# Altium schematic symbol library STM32F732RE.SCHLIB: 1 symbol
Pins are listed as number, name and electrical type; pins without a type are passive.

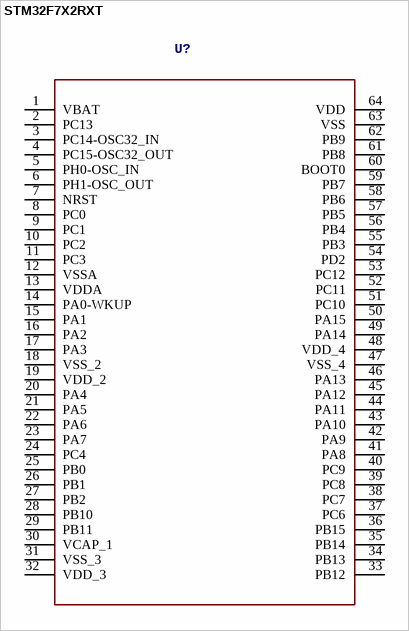
[diagram p0: symbol STM32F7X2RXT]

## STM32F7X2RXT
designator U?
MANUFACTURER_PART_NUMBER: stm32f7x2rxt; VENDOR: STMicroelectronics
footprint LQFP64-10X10MM
pins: 1 VBAT (power), 2 PC13, 3 PC14-OSC32_IN, 4 PC15-OSC32_OUT, 5 PH0-OSC_IN, 6 PH1-OSC_OUT, 7 NRST, 8 PC0, 9 PC1, 10 PC2, 11 PC3, 12 VSSA (power), 13 VDDA (power), 14 PA0-WKUP, 15 PA1, 16 PA2, 17 PA3, 18 VSS_2 (power), 19 VDD_2 (power), 20 PA4, 21 PA5, 22 PA6, 23 PA7, 24 PC4, 25 PB0, 26 PB1, 27 PB2, 28 PB10, 29 PB11, 30 VCAP_1 (power), 31 VSS_3 (power), 32 VDD_3 (power), 33 PB12, 34 PB13, 35 PB14, 36 PB15, 37 PC6, 38 PC7, 39 PC8, 40 PC9, 41 PA8, 42 PA9, 43 PA10, 44 PA11, 45 PA12, 46 PA13, 47 VSS_4 (power), 48 VDD_4 (power), 49 PA14, 50 PA15, 51 PC10, 52 PC11, 53 PC12, 54 PD2, 55 PB3, 56 PB4, 57 PB5, 58 PB6, 59 PB7, 60 BOOT0, 61 PB8, 62 PB9, 63 VSS (power), 64 VDD (power)